# Altium integrated library TI Amplifiers and Linear Special Function Amplifier.IntLib: 708 symbols (part 16 of 47)
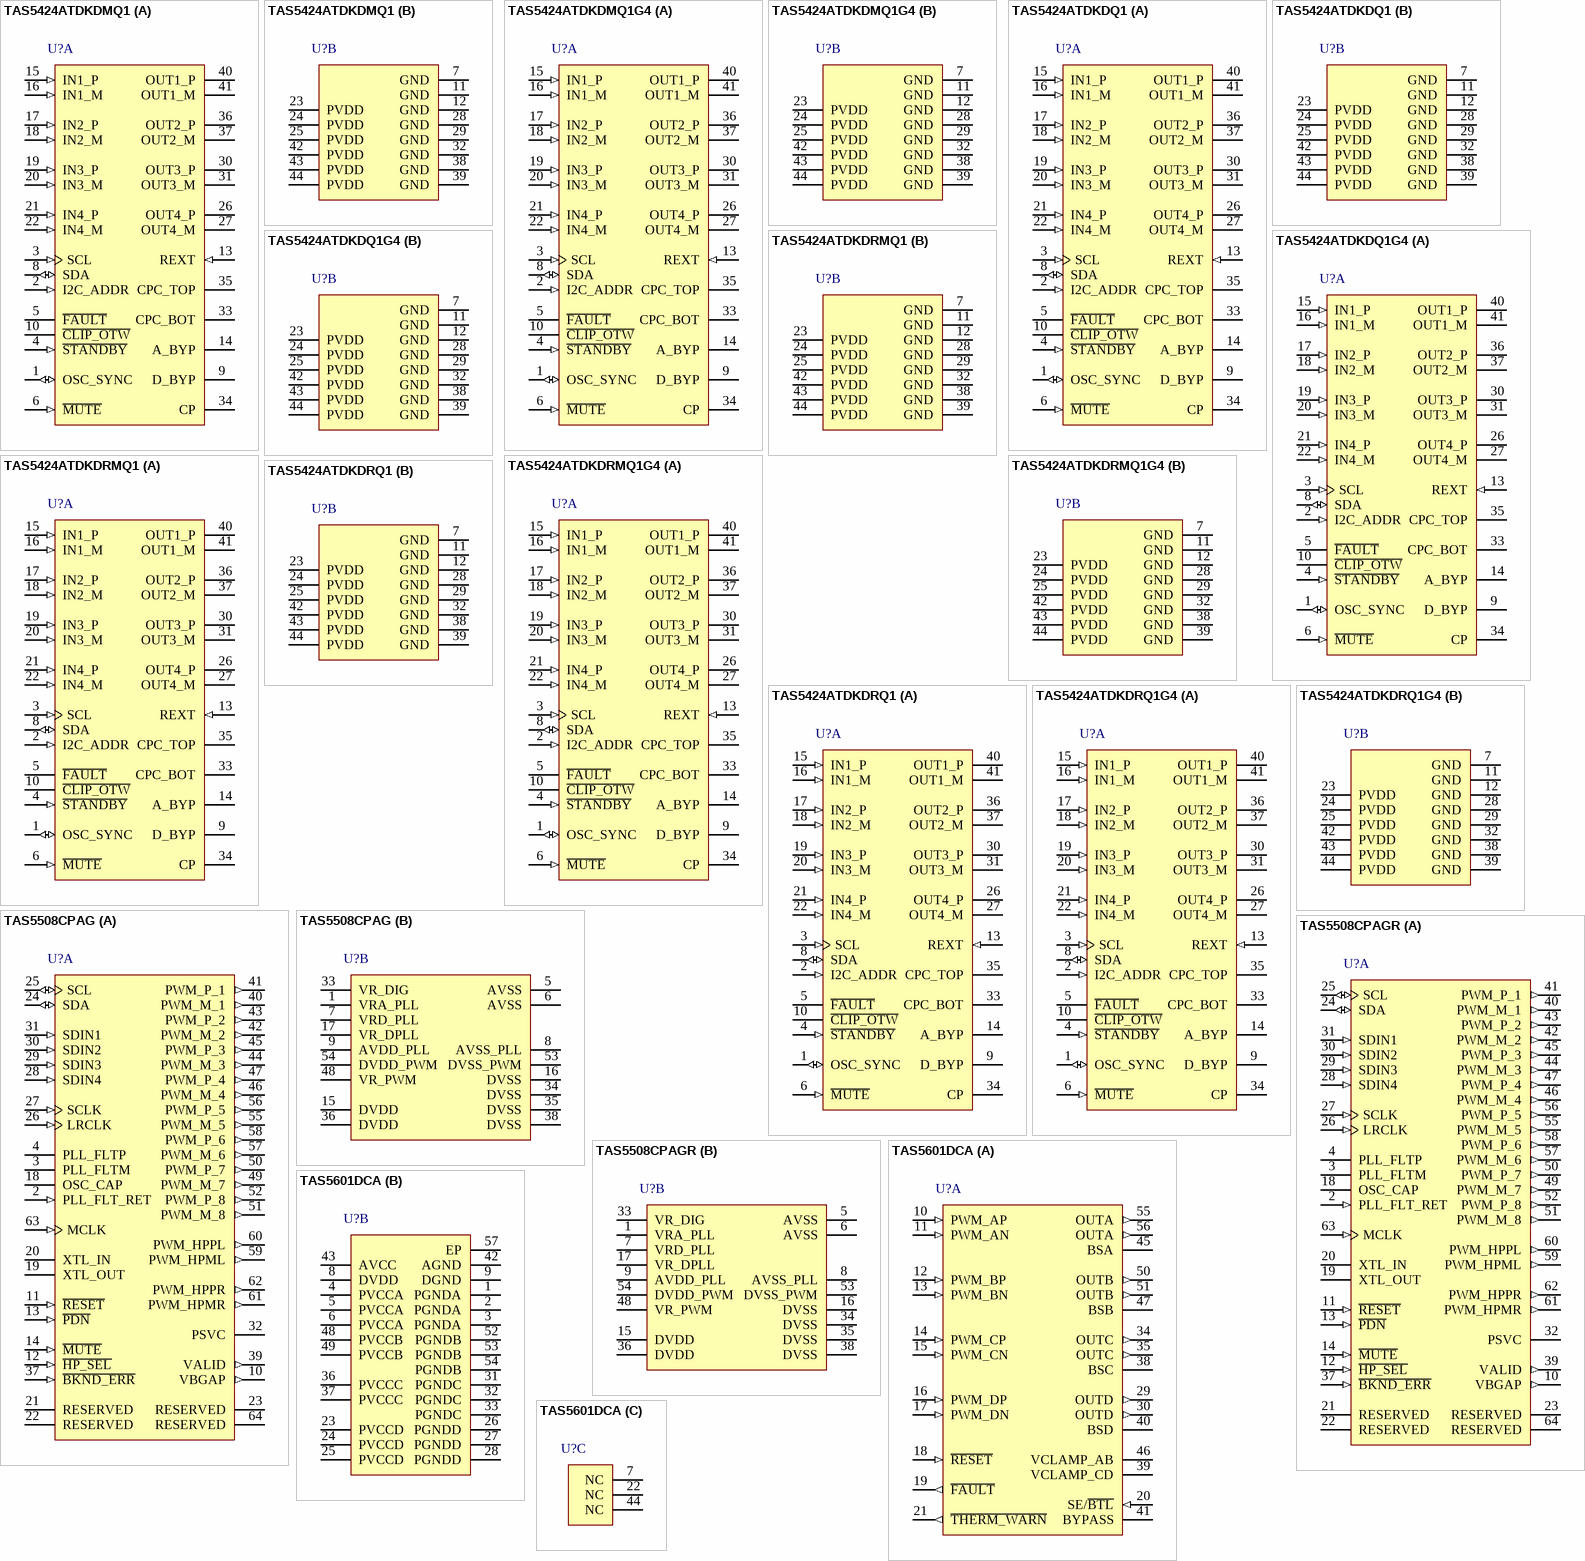
[diagram p54: symbols TAS5424ATDKDMQ1 to TAS5601DCA]

## TAS5424ATDKDMQ1
designator U?
4-Channel Automotive Digital Amplifier, -40 to 105 degC, 44-pin SOP (DKD44), Green (RoHS & no Sb/Br); Manufacturer: Texas Instruments; PartNumber: TAS5424ATDKDMQ1; Analog Supply Max [V]: 26.5; Analog Supply Min [V]: 6; Input Type: Analog; Max. Number of Speaker Outputs: 4; SubFamily: Mid/High-Power Amplifier; DatasheetVersion: SLOS535C; PackageVersion: 4204421-3/K, 06/2012; PackageReference: DKD44; PackageDescription: 44-Pin Plastic Small Outline, Body 11 x 15.9 mm, Pitch 0.65 mm; Supplier 1: Digi-Key; Supplier Part Number 1: 296-22043-5-ND; Supplier 2: Newark; Supplier Part Number 2: 54M7297; Supplier 3: Mouser; Supplier Part Number 3: 595-TAS5424ATDKDMQ1; Eco-Plan: Green (RoHS & no Sb/Br); Power Stage Supply Min(V): 6; Mounting Technology: Surface Mount; ComponentLink1Description: Manufacturer URL; ComponentLink1URL: http://www.ti.com/; ComponentLink2Description: Datasheet; ComponentLink2URL: http://www.ti.com/general/docs/lit/getliterature.tsp?genericPartNumber=TAS5424A&fileType=pdf; ComponentLink3Description: Package Specification; ComponentLink3URL: http://www.ti.com/litv/pdf/mpdi001b
footprint TI-DKD44_N (SOP, 44-Leads, Body 15.9x11mm, Pitch 0.65mm, IPC Medium Density)
footprint TI-DKD44_L (SOP, 44-Leads, Body 15.9x11mm, Pitch 0.65mm, IPC High Density)
footprint TI-DKD44_M (SOP, 44-Leads, Body 15.9x11mm, Pitch 0.65mm, IPC Low Density)
part A pins: 1 OSC_SYNC (io) "Oscillator sync input from master or output to slave amplifiers (20 MHz divided by 5, 6, or 7)", 2 I2C_ADDR (in) "I2C address bit", 3 SCL (in) "I2C clock input from system I2C master", 4 ~{STANDBY} (in) "Active-low STANDBY pin. Standby (low), power up (high)", 5 ~{FAULT} (oc) "Global fault output (open drain): UV, OV, OTSD, OCSD, DC", 6 ~{MUTE} (in) "Gain ramp control: mute (low), play (high)", 8 SDA (io) "I2C data I/O for communication with system I2C master", 9 D_BYP "Bypass pin for DVDD regulator output", 10 ~{CLIP_OTW} (oc) "Open-drain CLIP, OTW, or logical OR of the CLIP and OTW outputs. It also reports tweeter detection during tweeter mode.", 13 REXT (in) "Precision resistor pin to set analog reference", 14 A_BYP "Bypass pin for the AVDD analog regulator", 15 IN1_P (in) "Non-inverting analog input for channel 1", 16 IN1_M (in) "Inverting analog input for channel 1 (TAS5424A only)", 17 IN2_P (in) "Non-inverting analog input for channel 2", 18 IN2_M (in) "Inverting analog input for channel 2 (TAS5424A only)", 19 IN3_P (in) "Non-inverting analog input for channel 3", 20 IN3_M (in) "Inverting analog input for channel 3 (TAS5424A only)", 21 IN4_P (in) "Non-inverting analog input for channel 4", 22 IN4_M (in) "Inverting analog input for channel 4 (TAS5424A only)", 26 OUT4_P (hiz) "+ polarity output for bridge 4", 27 OUT4_M (hiz) "- polarity output for bridge 4", 30 OUT3_P (hiz) "+ polarity output for bridge 3", 31 OUT3_M (hiz) "- polarity output for bridge 3", 33 CPC_BOT "Bottom of flying capacitor for charge pump", 34 CP "Top of main storage capacitor for charge pump (bottom goes to PVDD)", 35 CPC_TOP "Top of flying capacitor for charge pump", 36 OUT2_P (hiz) "+ polarity output for bridge 2", 37 OUT2_M (hiz) "- polarity output for bridge 2", 40 OUT1_P (hiz) "+ polarity output for bridge 1", 41 OUT1_M (hiz) "- polarity output for bridge 1"
part B pins: 7 GND (power) "Ground", 11 GND (power) "Ground", 12 GND (power) "Ground", 23 PVDD (power) "PVDD supply", 24 PVDD (power) "PVDD supply", 25 PVDD (power) "PVDD supply", 28 GND (power) "Ground", 29 GND (power) "Ground", 32 GND (power) "Ground", 38 GND (power) "Ground", 39 GND (power) "Ground", 42 PVDD (power) "PVDD supply", 43 PVDD (power) "PVDD supply", 44 PVDD (power) "PVDD supply"

## TAS5424ATDKDMQ1G4
designator U?
4-Channel Automotive Digital Amplifier, -40 to 105 degC, 44-pin SOP (DKD44), Green (RoHS & no Sb/Br); Manufacturer: Texas Instruments; PartNumber: TAS5424ATDKDMQ1G4; Analog Supply Max [V]: 26.5; Analog Supply Min [V]: 6; Input Type: Analog; Max. Number of Speaker Outputs: 4; SubFamily: Mid/High-Power Amplifier; DatasheetVersion: SLOS535C; PackageVersion: 4204421-3/K, 06/2012; PackageReference: DKD44; PackageDescription: 44-Pin Plastic Small Outline, Body 11 x 15.9 mm, Pitch 0.65 mm; Supplier 1: Digi-Key; Supplier Part Number 1: TAS5424ATDKDMQ1G4-ND; Supplier 2: Mouser; Supplier Part Number 2: 595-TA5424ATDKDMQ1G4; Eco-Plan: Green (RoHS & no Sb/Br); Power Stage Supply Min(V): 6; Mounting Technology: Surface Mount; ComponentLink1Description: Manufacturer URL; ComponentLink1URL: http://www.ti.com/; ComponentLink2Description: Datasheet; ComponentLink2URL: http://www.ti.com/general/docs/lit/getliterature.tsp?genericPartNumber=TAS5424A&fileType=pdf; ComponentLink3Description: Package Specification; ComponentLink3URL: http://www.ti.com/litv/pdf/mpdi001b
footprint TI-DKD44_N (SOP, 44-Leads, Body 15.9x11mm, Pitch 0.65mm, IPC Medium Density)
footprint TI-DKD44_L (SOP, 44-Leads, Body 15.9x11mm, Pitch 0.65mm, IPC High Density)
footprint TI-DKD44_M (SOP, 44-Leads, Body 15.9x11mm, Pitch 0.65mm, IPC Low Density)
part A pins: 1 OSC_SYNC (io) "Oscillator sync input from master or output to slave amplifiers (20 MHz divided by 5, 6, or 7)", 2 I2C_ADDR (in) "I2C address bit", 3 SCL (in) "I2C clock input from system I2C master", 4 ~{STANDBY} (in) "Active-low STANDBY pin. Standby (low), power up (high)", 5 ~{FAULT} (oc) "Global fault output (open drain): UV, OV, OTSD, OCSD, DC", 6 ~{MUTE} (in) "Gain ramp control: mute (low), play (high)", 8 SDA (io) "I2C data I/O for communication with system I2C master", 9 D_BYP "Bypass pin for DVDD regulator output", 10 ~{CLIP_OTW} (oc) "Open-drain CLIP, OTW, or logical OR of the CLIP and OTW outputs. It also reports tweeter detection during tweeter mode.", 13 REXT (in) "Precision resistor pin to set analog reference", 14 A_BYP "Bypass pin for the AVDD analog regulator", 15 IN1_P (in) "Non-inverting analog input for channel 1", 16 IN1_M (in) "Inverting analog input for channel 1 (TAS5424A only)", 17 IN2_P (in) "Non-inverting analog input for channel 2", 18 IN2_M (in) "Inverting analog input for channel 2 (TAS5424A only)", 19 IN3_P (in) "Non-inverting analog input for channel 3", 20 IN3_M (in) "Inverting analog input for channel 3 (TAS5424A only)", 21 IN4_P (in) "Non-inverting analog input for channel 4", 22 IN4_M (in) "Inverting analog input for channel 4 (TAS5424A only)", 26 OUT4_P (hiz) "+ polarity output for bridge 4", 27 OUT4_M (hiz) "- polarity output for bridge 4", 30 OUT3_P (hiz) "+ polarity output for bridge 3", 31 OUT3_M (hiz) "- polarity output for bridge 3", 33 CPC_BOT "Bottom of flying capacitor for charge pump", 34 CP "Top of main storage capacitor for charge pump (bottom goes to PVDD)", 35 CPC_TOP "Top of flying capacitor for charge pump", 36 OUT2_P (hiz) "+ polarity output for bridge 2", 37 OUT2_M (hiz) "- polarity output for bridge 2", 40 OUT1_P (hiz) "+ polarity output for bridge 1", 41 OUT1_M (hiz) "- polarity output for bridge 1"
part B pins: 7 GND (power) "Ground", 11 GND (power) "Ground", 12 GND (power) "Ground", 23 PVDD (power) "PVDD supply", 24 PVDD (power) "PVDD supply", 25 PVDD (power) "PVDD supply", 28 GND (power) "Ground", 29 GND (power) "Ground", 32 GND (power) "Ground", 38 GND (power) "Ground", 39 GND (power) "Ground", 42 PVDD (power) "PVDD supply", 43 PVDD (power) "PVDD supply", 44 PVDD (power) "PVDD supply"

## TAS5424ATDKDQ1
designator U?
4-Channel Automotive Digital Amplifier, -40 to 105 degC, 44-pin SOP (DKD44), Green (RoHS & no Sb/Br); Manufacturer: Texas Instruments; PartNumber: TAS5424ATDKDQ1; Analog Supply Max [V]: 26.5; Analog Supply Min [V]: 6; Input Type: Analog; Max. Number of Speaker Outputs: 4; SubFamily: Mid/High-Power Amplifier; DatasheetVersion: SLOS535C; PackageVersion: 4204421-3/K, 06/2012; PackageReference: DKD44; PackageDescription: 44-Pin Plastic Small Outline, Body 11 x 15.9 mm, Pitch 0.65 mm; Supplier 1: Digi-Key; Supplier Part Number 1: TAS5424ATDKDQ1-ND; Supplier 2: Newark; Supplier Part Number 2: 54M7298; Supplier 3: Mouser; Supplier Part Number 3: 595-TAS5424ATDKDQ1; Eco-Plan: Green (RoHS & no Sb/Br); Power Stage Supply Min(V): 6; Mounting Technology: Surface Mount; ComponentLink1Description: Manufacturer URL; ComponentLink1URL: http://www.ti.com/; ComponentLink2Description: Datasheet; ComponentLink2URL: http://www.ti.com/general/docs/lit/getliterature.tsp?genericPartNumber=TAS5424A&fileType=pdf; ComponentLink3Description: Package Specification; ComponentLink3URL: http://www.ti.com/litv/pdf/mpdi001b
footprint TI-DKD44_N (SOP, 44-Leads, Body 15.9x11mm, Pitch 0.65mm, IPC Medium Density)
footprint TI-DKD44_L (SOP, 44-Leads, Body 15.9x11mm, Pitch 0.65mm, IPC High Density)
footprint TI-DKD44_M (SOP, 44-Leads, Body 15.9x11mm, Pitch 0.65mm, IPC Low Density)
part A pins: 1 OSC_SYNC (io) "Oscillator sync input from master or output to slave amplifiers (20 MHz divided by 5, 6, or 7)", 2 I2C_ADDR (in) "I2C address bit", 3 SCL (in) "I2C clock input from system I2C master", 4 ~{STANDBY} (in) "Active-low STANDBY pin. Standby (low), power up (high)", 5 ~{FAULT} (oc) "Global fault output (open drain): UV, OV, OTSD, OCSD, DC", 6 ~{MUTE} (in) "Gain ramp control: mute (low), play (high)", 8 SDA (io) "I2C data I/O for communication with system I2C master", 9 D_BYP "Bypass pin for DVDD regulator output", 10 ~{CLIP_OTW} (oc) "Open-drain CLIP, OTW, or logical OR of the CLIP and OTW outputs. It also reports tweeter detection during tweeter mode.", 13 REXT (in) "Precision resistor pin to set analog reference", 14 A_BYP "Bypass pin for the AVDD analog regulator", 15 IN1_P (in) "Non-inverting analog input for channel 1", 16 IN1_M (in) "Inverting analog input for channel 1 (TAS5424A only)", 17 IN2_P (in) "Non-inverting analog input for channel 2", 18 IN2_M (in) "Inverting analog input for channel 2 (TAS5424A only)", 19 IN3_P (in) "Non-inverting analog input for channel 3", 20 IN3_M (in) "Inverting analog input for channel 3 (TAS5424A only)", 21 IN4_P (in) "Non-inverting analog input for channel 4", 22 IN4_M (in) "Inverting analog input for channel 4 (TAS5424A only)", 26 OUT4_P (hiz) "+ polarity output for bridge 4", 27 OUT4_M (hiz) "- polarity output for bridge 4", 30 OUT3_P (hiz) "+ polarity output for bridge 3", 31 OUT3_M (hiz) "- polarity output for bridge 3", 33 CPC_BOT "Bottom of flying capacitor for charge pump", 34 CP "Top of main storage capacitor for charge pump (bottom goes to PVDD)", 35 CPC_TOP "Top of flying capacitor for charge pump", 36 OUT2_P (hiz) "+ polarity output for bridge 2", 37 OUT2_M (hiz) "- polarity output for bridge 2", 40 OUT1_P (hiz) "+ polarity output for bridge 1", 41 OUT1_M (hiz) "- polarity output for bridge 1"
part B pins: 7 GND (power) "Ground", 11 GND (power) "Ground", 12 GND (power) "Ground", 23 PVDD (power) "PVDD supply", 24 PVDD (power) "PVDD supply", 25 PVDD (power) "PVDD supply", 28 GND (power) "Ground", 29 GND (power) "Ground", 32 GND (power) "Ground", 38 GND (power) "Ground", 39 GND (power) "Ground", 42 PVDD (power) "PVDD supply", 43 PVDD (power) "PVDD supply", 44 PVDD (power) "PVDD supply"

## TAS5424ATDKDQ1G4
designator U?
4-Channel Automotive Digital Amplifier, -40 to 105 degC, 44-pin SOP (DKD44), Green (RoHS & no Sb/Br); Manufacturer: Texas Instruments; PartNumber: TAS5424ATDKDQ1G4; Analog Supply Max [V]: 26.5; Analog Supply Min [V]: 6; Input Type: Analog; Max. Number of Speaker Outputs: 4; SubFamily: Mid/High-Power Amplifier; DatasheetVersion: SLOS535C; PackageVersion: 4204421-3/K, 06/2012; PackageReference: DKD44; PackageDescription: 44-Pin Plastic Small Outline, Body 11 x 15.9 mm, Pitch 0.65 mm; Supplier 1: Digi-Key; Supplier Part Number 1: TAS5424ATDKDQ1G4-ND; Supplier 2: Mouser; Supplier Part Number 2: 595-TAS5424ATDKDQ1G4; Eco-Plan: Green (RoHS & no Sb/Br); Power Stage Supply Min(V): 6; Mounting Technology: Surface Mount; ComponentLink1Description: Manufacturer URL; ComponentLink1URL: http://www.ti.com/; ComponentLink2Description: Datasheet; ComponentLink2URL: http://www.ti.com/general/docs/lit/getliterature.tsp?genericPartNumber=TAS5424A&fileType=pdf; ComponentLink3Description: Package Specification; ComponentLink3URL: http://www.ti.com/litv/pdf/mpdi001b
footprint TI-DKD44_N (SOP, 44-Leads, Body 15.9x11mm, Pitch 0.65mm, IPC Medium Density)
footprint TI-DKD44_L (SOP, 44-Leads, Body 15.9x11mm, Pitch 0.65mm, IPC High Density)
footprint TI-DKD44_M (SOP, 44-Leads, Body 15.9x11mm, Pitch 0.65mm, IPC Low Density)
part A pins: 1 OSC_SYNC (io) "Oscillator sync input from master or output to slave amplifiers (20 MHz divided by 5, 6, or 7)", 2 I2C_ADDR (in) "I2C address bit", 3 SCL (in) "I2C clock input from system I2C master", 4 ~{STANDBY} (in) "Active-low STANDBY pin. Standby (low), power up (high)", 5 ~{FAULT} (oc) "Global fault output (open drain): UV, OV, OTSD, OCSD, DC", 6 ~{MUTE} (in) "Gain ramp control: mute (low), play (high)", 8 SDA (io) "I2C data I/O for communication with system I2C master", 9 D_BYP "Bypass pin for DVDD regulator output", 10 ~{CLIP_OTW} (oc) "Open-drain CLIP, OTW, or logical OR of the CLIP and OTW outputs. It also reports tweeter detection during tweeter mode.", 13 REXT (in) "Precision resistor pin to set analog reference", 14 A_BYP "Bypass pin for the AVDD analog regulator", 15 IN1_P (in) "Non-inverting analog input for channel 1", 16 IN1_M (in) "Inverting analog input for channel 1 (TAS5424A only)", 17 IN2_P (in) "Non-inverting analog input for channel 2", 18 IN2_M (in) "Inverting analog input for channel 2 (TAS5424A only)", 19 IN3_P (in) "Non-inverting analog input for channel 3", 20 IN3_M (in) "Inverting analog input for channel 3 (TAS5424A only)", 21 IN4_P (in) "Non-inverting analog input for channel 4", 22 IN4_M (in) "Inverting analog input for channel 4 (TAS5424A only)", 26 OUT4_P (hiz) "+ polarity output for bridge 4", 27 OUT4_M (hiz) "- polarity output for bridge 4", 30 OUT3_P (hiz) "+ polarity output for bridge 3", 31 OUT3_M (hiz) "- polarity output for bridge 3", 33 CPC_BOT "Bottom of flying capacitor for charge pump", 34 CP "Top of main storage capacitor for charge pump (bottom goes to PVDD)", 35 CPC_TOP "Top of flying capacitor for charge pump", 36 OUT2_P (hiz) "+ polarity output for bridge 2", 37 OUT2_M (hiz) "- polarity output for bridge 2", 40 OUT1_P (hiz) "+ polarity output for bridge 1", 41 OUT1_M (hiz) "- polarity output for bridge 1"
part B pins: 7 GND (power) "Ground", 11 GND (power) "Ground", 12 GND (power) "Ground", 23 PVDD (power) "PVDD supply", 24 PVDD (power) "PVDD supply", 25 PVDD (power) "PVDD supply", 28 GND (power) "Ground", 29 GND (power) "Ground", 32 GND (power) "Ground", 38 GND (power) "Ground", 39 GND (power) "Ground", 42 PVDD (power) "PVDD supply", 43 PVDD (power) "PVDD supply", 44 PVDD (power) "PVDD supply"

## TAS5424ATDKDRMQ1
designator U?
4-Channel Automotive Digital Amplifier, -40 to 105 degC, 44-pin SOP (DKD44), Green (RoHS & no Sb/Br); Manufacturer: Texas Instruments; PartNumber: TAS5424ATDKDRMQ1; Analog Supply Max [V]: 26.5; Analog Supply Min [V]: 6; Input Type: Analog; Max. Number of Speaker Outputs: 4; SubFamily: Mid/High-Power Amplifier; DatasheetVersion: SLOS535C; PackageVersion: 4204421-3/K, 06/2012; PackageReference: DKD44; PackageDescription: 44-Pin Plastic Small Outline, Body 11 x 15.9 mm, Pitch 0.65 mm; Supplier 1: Digi-Key; Supplier Part Number 1: TAS5424ATDKDRMQ1-ND; Supplier 2: Mouser; Supplier Part Number 2: 595-TAS5424ATDKDRMQ1; Eco-Plan: Green (RoHS & no Sb/Br); Power Stage Supply Min(V): 6; Mounting Technology: Surface Mount; ComponentLink1Description: Manufacturer URL; ComponentLink1URL: http://www.ti.com/; ComponentLink2Description: Datasheet; ComponentLink2URL: http://www.ti.com/general/docs/lit/getliterature.tsp?genericPartNumber=TAS5424A&fileType=pdf; ComponentLink3Description: Package Specification; ComponentLink3URL: http://www.ti.com/litv/pdf/mpdi001b
footprint TI-DKD44_N (SOP, 44-Leads, Body 15.9x11mm, Pitch 0.65mm, IPC Medium Density)
footprint TI-DKD44_L (SOP, 44-Leads, Body 15.9x11mm, Pitch 0.65mm, IPC High Density)
footprint TI-DKD44_M (SOP, 44-Leads, Body 15.9x11mm, Pitch 0.65mm, IPC Low Density)
part A pins: 1 OSC_SYNC (io) "Oscillator sync input from master or output to slave amplifiers (20 MHz divided by 5, 6, or 7)", 2 I2C_ADDR (in) "I2C address bit", 3 SCL (in) "I2C clock input from system I2C master", 4 ~{STANDBY} (in) "Active-low STANDBY pin. Standby (low), power up (high)", 5 ~{FAULT} (oc) "Global fault output (open drain): UV, OV, OTSD, OCSD, DC", 6 ~{MUTE} (in) "Gain ramp control: mute (low), play (high)", 8 SDA (io) "I2C data I/O for communication with system I2C master", 9 D_BYP "Bypass pin for DVDD regulator output", 10 ~{CLIP_OTW} (oc) "Open-drain CLIP, OTW, or logical OR of the CLIP and OTW outputs. It also reports tweeter detection during tweeter mode.", 13 REXT (in) "Precision resistor pin to set analog reference", 14 A_BYP "Bypass pin for the AVDD analog regulator", 15 IN1_P (in) "Non-inverting analog input for channel 1", 16 IN1_M (in) "Inverting analog input for channel 1 (TAS5424A only)", 17 IN2_P (in) "Non-inverting analog input for channel 2", 18 IN2_M (in) "Inverting analog input for channel 2 (TAS5424A only)", 19 IN3_P (in) "Non-inverting analog input for channel 3", 20 IN3_M (in) "Inverting analog input for channel 3 (TAS5424A only)", 21 IN4_P (in) "Non-inverting analog input for channel 4", 22 IN4_M (in) "Inverting analog input for channel 4 (TAS5424A only)", 26 OUT4_P (hiz) "+ polarity output for bridge 4", 27 OUT4_M (hiz) "- polarity output for bridge 4", 30 OUT3_P (hiz) "+ polarity output for bridge 3", 31 OUT3_M (hiz) "- polarity output for bridge 3", 33 CPC_BOT "Bottom of flying capacitor for charge pump", 34 CP "Top of main storage capacitor for charge pump (bottom goes to PVDD)", 35 CPC_TOP "Top of flying capacitor for charge pump", 36 OUT2_P (hiz) "+ polarity output for bridge 2", 37 OUT2_M (hiz) "- polarity output for bridge 2", 40 OUT1_P (hiz) "+ polarity output for bridge 1", 41 OUT1_M (hiz) "- polarity output for bridge 1"
part B pins: 7 GND (power) "Ground", 11 GND (power) "Ground", 12 GND (power) "Ground", 23 PVDD (power) "PVDD supply", 24 PVDD (power) "PVDD supply", 25 PVDD (power) "PVDD supply", 28 GND (power) "Ground", 29 GND (power) "Ground", 32 GND (power) "Ground", 38 GND (power) "Ground", 39 GND (power) "Ground", 42 PVDD (power) "PVDD supply", 43 PVDD (power) "PVDD supply", 44 PVDD (power) "PVDD supply"

## TAS5424ATDKDRMQ1G4
designator U?
4-Channel Automotive Digital Amplifier, -40 to 105 degC, 44-pin SOP (DKD44), Green (RoHS & no Sb/Br); Manufacturer: Texas Instruments; PartNumber: TAS5424ATDKDRMQ1G4; Analog Supply Max [V]: 26.5; Analog Supply Min [V]: 6; Input Type: Analog; Max. Number of Speaker Outputs: 4; SubFamily: Mid/High-Power Amplifier; DatasheetVersion: SLOS535C; PackageVersion: 4204421-3/K, 06/2012; PackageReference: DKD44; PackageDescription: 44-Pin Plastic Small Outline, Body 11 x 15.9 mm, Pitch 0.65 mm; Supplier 1: Digi-Key; Supplier Part Number 1: TAS5424ATDKDRMQ1G4-ND; Supplier 2: Mouser; Supplier Part Number 2: 595-T5424ATDKDRMQ1G4; Eco-Plan: Green (RoHS & no Sb/Br); Power Stage Supply Min(V): 6; Mounting Technology: Surface Mount; ComponentLink1Description: Manufacturer URL; ComponentLink1URL: http://www.ti.com/; ComponentLink2Description: Datasheet; ComponentLink2URL: http://www.ti.com/general/docs/lit/getliterature.tsp?genericPartNumber=TAS5424A&fileType=pdf; ComponentLink3Description: Package Specification; ComponentLink3URL: http://www.ti.com/litv/pdf/mpdi001b
footprint TI-DKD44_N (SOP, 44-Leads, Body 15.9x11mm, Pitch 0.65mm, IPC Medium Density)
footprint TI-DKD44_L (SOP, 44-Leads, Body 15.9x11mm, Pitch 0.65mm, IPC High Density)
footprint TI-DKD44_M (SOP, 44-Leads, Body 15.9x11mm, Pitch 0.65mm, IPC Low Density)
part A pins: 1 OSC_SYNC (io) "Oscillator sync input from master or output to slave amplifiers (20 MHz divided by 5, 6, or 7)", 2 I2C_ADDR (in) "I2C address bit", 3 SCL (in) "I2C clock input from system I2C master", 4 ~{STANDBY} (in) "Active-low STANDBY pin. Standby (low), power up (high)", 5 ~{FAULT} (oc) "Global fault output (open drain): UV, OV, OTSD, OCSD, DC", 6 ~{MUTE} (in) "Gain ramp control: mute (low), play (high)", 8 SDA (io) "I2C data I/O for communication with system I2C master", 9 D_BYP "Bypass pin for DVDD regulator output", 10 ~{CLIP_OTW} (oc) "Open-drain CLIP, OTW, or logical OR of the CLIP and OTW outputs. It also reports tweeter detection during tweeter mode.", 13 REXT (in) "Precision resistor pin to set analog reference", 14 A_BYP "Bypass pin for the AVDD analog regulator", 15 IN1_P (in) "Non-inverting analog input for channel 1", 16 IN1_M (in) "Inverting analog input for channel 1 (TAS5424A only)", 17 IN2_P (in) "Non-inverting analog input for channel 2", 18 IN2_M (in) "Inverting analog input for channel 2 (TAS5424A only)", 19 IN3_P (in) "Non-inverting analog input for channel 3", 20 IN3_M (in) "Inverting analog input for channel 3 (TAS5424A only)", 21 IN4_P (in) "Non-inverting analog input for channel 4", 22 IN4_M (in) "Inverting analog input for channel 4 (TAS5424A only)", 26 OUT4_P (hiz) "+ polarity output for bridge 4", 27 OUT4_M (hiz) "- polarity output for bridge 4", 30 OUT3_P (hiz) "+ polarity output for bridge 3", 31 OUT3_M (hiz) "- polarity output for bridge 3", 33 CPC_BOT "Bottom of flying capacitor for charge pump", 34 CP "Top of main storage capacitor for charge pump (bottom goes to PVDD)", 35 CPC_TOP "Top of flying capacitor for charge pump", 36 OUT2_P (hiz) "+ polarity output for bridge 2", 37 OUT2_M (hiz) "- polarity output for bridge 2", 40 OUT1_P (hiz) "+ polarity output for bridge 1", 41 OUT1_M (hiz) "- polarity output for bridge 1"
part B pins: 7 GND (power) "Ground", 11 GND (power) "Ground", 12 GND (power) "Ground", 23 PVDD (power) "PVDD supply", 24 PVDD (power) "PVDD supply", 25 PVDD (power) "PVDD supply", 28 GND (power) "Ground", 29 GND (power) "Ground", 32 GND (power) "Ground", 38 GND (power) "Ground", 39 GND (power) "Ground", 42 PVDD (power) "PVDD supply", 43 PVDD (power) "PVDD supply", 44 PVDD (power) "PVDD supply"

## TAS5424ATDKDRQ1
designator U?
4-Channel Automotive Digital Amplifier, -40 to 105 degC, 44-pin SOP (DKD44), Green (RoHS & no Sb/Br); Manufacturer: Texas Instruments; PartNumber: TAS5424ATDKDRQ1; Analog Supply Max [V]: 26.5; Analog Supply Min [V]: 6; Input Type: Analog; Max. Number of Speaker Outputs: 4; SubFamily: Mid/High-Power Amplifier; DatasheetVersion: SLOS535C; PackageVersion: 4204421-3/K, 06/2012; PackageReference: DKD44; PackageDescription: 44-Pin Plastic Small Outline, Body 11 x 15.9 mm, Pitch 0.65 mm; Supplier 1: Digi-Key; Supplier Part Number 1: 296-22067-2-ND; Supplier 2: Digi-Key; Supplier Part Number 2: 296-22067-1-ND; Supplier 3: Mouser; Supplier Part Number 3: 595-TAS5424ATDKDRQ1; Eco-Plan: Green (RoHS & no Sb/Br); Power Stage Supply Min(V): 6; Mounting Technology: Surface Mount; ComponentLink1Description: Manufacturer URL; ComponentLink1URL: http://www.ti.com/; ComponentLink2Description: Datasheet; ComponentLink2URL: http://www.ti.com/general/docs/lit/getliterature.tsp?genericPartNumber=TAS5424A&fileType=pdf; ComponentLink3Description: Package Specification; ComponentLink3URL: http://www.ti.com/litv/pdf/mpdi001b
footprint TI-DKD44_N (SOP, 44-Leads, Body 15.9x11mm, Pitch 0.65mm, IPC Medium Density)
footprint TI-DKD44_L (SOP, 44-Leads, Body 15.9x11mm, Pitch 0.65mm, IPC High Density)
footprint TI-DKD44_M (SOP, 44-Leads, Body 15.9x11mm, Pitch 0.65mm, IPC Low Density)
part A pins: 1 OSC_SYNC (io) "Oscillator sync input from master or output to slave amplifiers (20 MHz divided by 5, 6, or 7)", 2 I2C_ADDR (in) "I2C address bit", 3 SCL (in) "I2C clock input from system I2C master", 4 ~{STANDBY} (in) "Active-low STANDBY pin. Standby (low), power up (high)", 5 ~{FAULT} (oc) "Global fault output (open drain): UV, OV, OTSD, OCSD, DC", 6 ~{MUTE} (in) "Gain ramp control: mute (low), play (high)", 8 SDA (io) "I2C data I/O for communication with system I2C master", 9 D_BYP "Bypass pin for DVDD regulator output", 10 ~{CLIP_OTW} (oc) "Open-drain CLIP, OTW, or logical OR of the CLIP and OTW outputs. It also reports tweeter detection during tweeter mode.", 13 REXT (in) "Precision resistor pin to set analog reference", 14 A_BYP "Bypass pin for the AVDD analog regulator", 15 IN1_P (in) "Non-inverting analog input for channel 1", 16 IN1_M (in) "Inverting analog input for channel 1 (TAS5424A only)", 17 IN2_P (in) "Non-inverting analog input for channel 2", 18 IN2_M (in) "Inverting analog input for channel 2 (TAS5424A only)", 19 IN3_P (in) "Non-inverting analog input for channel 3", 20 IN3_M (in) "Inverting analog input for channel 3 (TAS5424A only)", 21 IN4_P (in) "Non-inverting analog input for channel 4", 22 IN4_M (in) "Inverting analog input for channel 4 (TAS5424A only)", 26 OUT4_P (hiz) "+ polarity output for bridge 4", 27 OUT4_M (hiz) "- polarity output for bridge 4", 30 OUT3_P (hiz) "+ polarity output for bridge 3", 31 OUT3_M (hiz) "- polarity output for bridge 3", 33 CPC_BOT "Bottom of flying capacitor for charge pump", 34 CP "Top of main storage capacitor for charge pump (bottom goes to PVDD)", 35 CPC_TOP "Top of flying capacitor for charge pump", 36 OUT2_P (hiz) "+ polarity output for bridge 2", 37 OUT2_M (hiz) "- polarity output for bridge 2", 40 OUT1_P (hiz) "+ polarity output for bridge 1", 41 OUT1_M (hiz) "- polarity output for bridge 1"
part B pins: 7 GND (power) "Ground", 11 GND (power) "Ground", 12 GND (power) "Ground", 23 PVDD (power) "PVDD supply", 24 PVDD (power) "PVDD supply", 25 PVDD (power) "PVDD supply", 28 GND (power) "Ground", 29 GND (power) "Ground", 32 GND (power) "Ground", 38 GND (power) "Ground", 39 GND (power) "Ground", 42 PVDD (power) "PVDD supply", 43 PVDD (power) "PVDD supply", 44 PVDD (power) "PVDD supply"

## TAS5424ATDKDRQ1G4
designator U?
4-Channel Automotive Digital Amplifier, -40 to 105 degC, 44-pin SOP (DKD44), Green (RoHS & no Sb/Br); Manufacturer: Texas Instruments; PartNumber: TAS5424ATDKDRQ1G4; Analog Supply Max [V]: 26.5; Analog Supply Min [V]: 6; Input Type: Analog; Max. Number of Speaker Outputs: 4; SubFamily: Mid/High-Power Amplifier; DatasheetVersion: SLOS535C; PackageVersion: 4204421-3/K, 06/2012; PackageReference: DKD44; PackageDescription: 44-Pin Plastic Small Outline, Body 11 x 15.9 mm, Pitch 0.65 mm; Supplier 1: Digi-Key; Supplier Part Number 1: TAS5424ATDKDRQ1G4-ND; Supplier 2: Mouser; Supplier Part Number 2: 595-TA5424ATDKDRQ1G4; Eco-Plan: Green (RoHS & no Sb/Br); Power Stage Supply Min(V): 6; Mounting Technology: Surface Mount; ComponentLink1Description: Manufacturer URL; ComponentLink1URL: http://www.ti.com/; ComponentLink2Description: Datasheet; ComponentLink2URL: http://www.ti.com/general/docs/lit/getliterature.tsp?genericPartNumber=TAS5424A&fileType=pdf; ComponentLink3Description: Package Specification; ComponentLink3URL: http://www.ti.com/litv/pdf/mpdi001b
footprint TI-DKD44_N (SOP, 44-Leads, Body 15.9x11mm, Pitch 0.65mm, IPC Medium Density)
footprint TI-DKD44_L (SOP, 44-Leads, Body 15.9x11mm, Pitch 0.65mm, IPC High Density)
footprint TI-DKD44_M (SOP, 44-Leads, Body 15.9x11mm, Pitch 0.65mm, IPC Low Density)
part A pins: 1 OSC_SYNC (io) "Oscillator sync input from master or output to slave amplifiers (20 MHz divided by 5, 6, or 7)", 2 I2C_ADDR (in) "I2C address bit", 3 SCL (in) "I2C clock input from system I2C master", 4 ~{STANDBY} (in) "Active-low STANDBY pin. Standby (low), power up (high)", 5 ~{FAULT} (oc) "Global fault output (open drain): UV, OV, OTSD, OCSD, DC", 6 ~{MUTE} (in) "Gain ramp control: mute (low), play (high)", 8 SDA (io) "I2C data I/O for communication with system I2C master", 9 D_BYP "Bypass pin for DVDD regulator output", 10 ~{CLIP_OTW} (oc) "Open-drain CLIP, OTW, or logical OR of the CLIP and OTW outputs. It also reports tweeter detection during tweeter mode.", 13 REXT (in) "Precision resistor pin to set analog reference", 14 A_BYP "Bypass pin for the AVDD analog regulator", 15 IN1_P (in) "Non-inverting analog input for channel 1", 16 IN1_M (in) "Inverting analog input for channel 1 (TAS5424A only)", 17 IN2_P (in) "Non-inverting analog input for channel 2", 18 IN2_M (in) "Inverting analog input for channel 2 (TAS5424A only)", 19 IN3_P (in) "Non-inverting analog input for channel 3", 20 IN3_M (in) "Inverting analog input for channel 3 (TAS5424A only)", 21 IN4_P (in) "Non-inverting analog input for channel 4", 22 IN4_M (in) "Inverting analog input for channel 4 (TAS5424A only)", 26 OUT4_P (hiz) "+ polarity output for bridge 4", 27 OUT4_M (hiz) "- polarity output for bridge 4", 30 OUT3_P (hiz) "+ polarity output for bridge 3", 31 OUT3_M (hiz) "- polarity output for bridge 3", 33 CPC_BOT "Bottom of flying capacitor for charge pump", 34 CP "Top of main storage capacitor for charge pump (bottom goes to PVDD)", 35 CPC_TOP "Top of flying capacitor for charge pump", 36 OUT2_P (hiz) "+ polarity output for bridge 2", 37 OUT2_M (hiz) "- polarity output for bridge 2", 40 OUT1_P (hiz) "+ polarity output for bridge 1", 41 OUT1_M (hiz) "- polarity output for bridge 1"
part B pins: 7 GND (power) "Ground", 11 GND (power) "Ground", 12 GND (power) "Ground", 23 PVDD (power) "PVDD supply", 24 PVDD (power) "PVDD supply", 25 PVDD (power) "PVDD supply", 28 GND (power) "Ground", 29 GND (power) "Ground", 32 GND (power) "Ground", 38 GND (power) "Ground", 39 GND (power) "Ground", 42 PVDD (power) "PVDD supply", 43 PVDD (power) "PVDD supply", 44 PVDD (power) "PVDD supply"

## TAS5508CPAG
designator U?
8 Channel PWM Processor, 0 to 70 degC, 64-pin QFP (PAG64), Green (RoHS & no Sb/Br); Manufacturer: Texas Instruments; PartNumber: TAS5508CPAG; Audio Output Channels (PWM)(#): 8; Bass/Treble Tone Control: TRUE; Data Resolution: 16, 20, 24; Digital Supply (up to 5 V)(Max)(V): 3.6; Digital Supply (up to 5 V)(Min)(V): 3; Dynamic Range(dB): 102; Fs(Max)(kHz): 192; Fs(Min)(kHz): 32; Loudness Compensation: Yes; Serial Interface: I2S, R, L; DatasheetVersion: SLES257; PackageVersion: 4040282/C, 11/1996; PackageReference: PAG64; PackageDescription: 64-Pin Plastic Flat Pack, Body 10 x 10 mm, Pitch 0.50 mm; Supplier 1: Digi-Key; Supplier Part Number 1: 296-32725-ND; Supplier 2: Mouser; Supplier Part Number 2: 595-TAS5508CPAG; Class-D: TRUE; Digital Input: TRUE; Eco-Plan: Green (RoHS & no Sb/Br); Mute: Yes; Output: PWM; PWM Headphone Output: TRUE; SubFamily: PWM Processor; Volume Control: TRUE; Mounting Technology: Surface Mount; Code_JEDEC: MS-026; ComponentLink1Description: Manufacturer URL; ComponentLink1URL: http://www.ti.com/; ComponentLink2Description: Datasheet; ComponentLink2URL: http://www.ti.com/general/docs/lit/getliterature.tsp?genericPartNumber=TAS5508C&fileType=pdf; ComponentLink3Description: Package Specification; ComponentLink3URL: http://www.ti.com/lit/ml/mtqf006a/mtqf006a.pdf
footprint TI-PAG64_N (QFP, 64-Leads, Body 10x10mm, Pitch 0.5mm, IPC Medium Density)
footprint TI-PAG64_L (QFP, 64-Leads, Body 10x10mm, Pitch 0.5mm, IPC High Density)
footprint TI-PAG64_M (QFP, 64-Leads, Body 10x10mm, Pitch 0.5mm, IPC Low Density)
part A pins: 2 PLL_FLT_RET (in) "PLL external filter return", 3 PLL_FLTM "PLL negative input. Connected to PLL_FLT_RTN via an RC network", 4 PLL_FLTP "PLL positive input. Connected to PLL_FLT_RTN via an RC network", 10 VBGAP (out) "Band-gap voltage reference. A pinout of the internally regulated 1.2-V reference.Typically has a 1-nF low-ESR capacitor between VBGAP and AVSS_PLL. This terminal must not be used to power external devices.", 11 ~{RESET} (in) "System reset input, active-low. A system reset is generated by applying a logic low to this terminal. R\E\S\E\T\ is an asynchronous control signal that restores the TAS5508C to its default conditions, sets the valid output (See Datasheet)", 12 ~{HP_SEL} (in) "Headphone in/out selector. When a logic low is applied, the headphone is selected (speakers are off). When a logic high is applied, speakers are selected(headphone is off).", 13 ~{PDN} (in) "Power down, active-low. P\D\N\ powers down all logic and stops all clocks whenever a logic low is applied. The internal parameters are preserved through a power-down cycle, as long as R\E\S\E\T\ is not active. The duration (See Datasheet)", 14 ~{MUTE} (in) "Soft mute of outputs, active-low (muted signal = a logic low, normal operation =a logic high). The mute control provides a noiseless volume ramp to silence.Releasing mute provides a noiseless ramp to previous volume.", 18 OSC_CAP "Oscillator capacitor", 19 XTL_OUT "XTL_OUT and XTL_IN are the only LVCMOS terminals on the device. They provide a reference clock for the TAS5508C via use of an external fundamental-mode crystal. XTL_OUT is the 1.8-V output drive to the crystal. A 13.5-MHz (See Datasheet)", 20 XTL_IN "XTL_OUT and XTL_IN are the only LVCMOS terminals on the device. They provide a reference clock for the TAS5508C via use of an external fundamental-mode crystal. XTL_IN  is the 1.8-V output drive to the crystal. A 13.5-MHz (See Datasheet)", 21 RESERVED (power) "Connect to digital ground", 22 RESERVED (power) "Connect to digital ground", 23 RESERVED (power) "Connect to digital ground", 24 SDA (io) "I2C serial-control data-interface input/output", 25 SCL (io) "I2C serial-control clock input/output", 26 LRCLK (in) "Serial-audio data left/right clock (sampling-rate clock)", 27 SCLK (in) "Serial-audio data clock (shift clock) input", 28 SDIN4 (in) "Serial-audio data input 4 is one of the serial-data input ports. SDIN4 supports four discrete (stereo) data formats and is capable of inputting data at 64 Fs.", 29 SDIN3 (in) "Serial-audio data input 3 is one of the serial-data input ports. SDIN4 supports four discrete (stereo) data formats and is capable of inputting data at 64 Fs.", 30 SDIN2 (in) "Serial-audio data input 2 is one of the serial-data input ports. SDIN2 supports four discrete (stereo) data formats and is capable of inputting data at 64 Fs.", 31 SDIN1 (in) "Serial-audio data input 1 is one of the serial-data input ports. SDIN2 supports four discrete (stereo) data formats and is capable of inputting data at 64 Fs.", 32 PSVC (hiz) "Power-supply volume control PWM output", 37 ~{BKND_ERR} (in) "Active-low. A back-end error sequence is generated by applying logic low to this terminal. The B\K\N\D\_\E\R\R\ results in no change to any system parameters, with all H-bridge drive signals going to a hard-mute (M) state.", 39 VALID (out) "Output indicating validity of PWM outputs, active-high", 40 PWM_M_1 (out) "PWM 1 output (differential -)", 41 PWM_P_1 (out) "PWM 1 output (differential +)", 42 PWM_M_2 (out) "PWM 2 output (differential -)", 43 PWM_P_2 (out) "PWM 2 output (differential +)", 44 PWM_M_3 (out) "PWM 3 output (differential -)", 45 PWM_P_3 (out) "PWM 3 output (differential +)", 46 PWM_M_4 (out) "PWM 4 output (differential -)", 47 PWM_P_4 (out) "PWM 4 output (differential +)", 49 PWM_M_7 (out) "PWM 7 (lineout L) output (differential -)", 50 PWM_P_7 (out) "PWM 7 (lineout L) output (differential +)", 51 PWM_M_8 (out) "PWM 8 (lineout R) output (differential -)", 52 PWM_P_8 (out) "PWM 8 (lineout R) output (differential +)", 55 PWM_M_5 (out) "PWM 5 output (differential -)", 56 PWM_P_5 (out) "PWM 5 output (differential +)", 57 PWM_M_6 (out) "PWM 6 output (differential -)", 58 PWM_P_6 (out) "PWM 6 output (differential +)", 59 PWM_HPML (out) "PWM left-channel headphone (differential -)", 60 PWM_HPPL (out) "PWM left-channel headphone (differential +)", 61 PWM_HPMR (out) "PWM right-channel headphone (differential -)", 62 PWM_HPPR (out) "PWM right-channel headphone (differential +)", 63 MCLK (in) "MCLK is a 3.3-V master clock input. The input frequency of this clock can range from 4 MHz to 50 MHz.", 64 RESERVED (power) "Connect to digital ground"
part B pins: 1 VRA_PLL (power) "Voltage reference for 1.8-V PLL analog supply. A pinout of the internally regulated 1.8-V power used by PLL logic. A 0.1-uF low-ESR capacitor should be connected between this terminal and AVSS_PLL. This terminal must not be (See Datasheet)", 5 AVSS (power) "Analog ground", 6 AVSS (power) "Analog ground", 7 VRD_PLL (power) "Voltage reference for 1.8-V PLL digital supply. A pinout of the internally regulated 1.8-V power used by PLL logic. A 0.1-uF low-ESR capacitor should be connected between this terminal and AVSS_PLL. This terminal must not be (See Datasheet)", 8 AVSS_PLL (power) "Analog ground for PLL. This terminal should reference the same ground as terminal DVSS, but to achieve low PLL jitter, ground noise at this terminal must be minimized. The availability of the AVSS terminal allows a designer (See Datasheet)", 9 AVDD_PLL (power) "3.3-V analog power supply for PLL. This terminal can be connected to the same power source used to drive power terminal DVDD, but to achieve low PLL jitter, this terminal should be bypassed to AVSS_PLL with a 0.1-uF low-ESR (See Datasheet)", 15 DVDD (power) "3.3-V digital power supply", 16 DVSS (power) "Digital ground", 17 VR_DPLL (power) "Voltage reference for 1.8-V digital PLL supply. A pinout of the internally regulated 1.8-V power used by digital PLL logic. A 0.1-uF low-ESR capacitor should be connected between this terminal and DVSS_CORE. This terminal (See Datasheet)", 33 VR_DIG (power) "Voltage reference for 1.8-V digital core supply. A pinout of the internally regulated 1.8-V power used by digital core logic. A 4.7-uF low-ESR capacitor should be connected between this terminal and DVSS. This terminal must (See Datasheet)", 34 DVSS (power) "Digital ground", 35 DVSS (power) "Digital ground", 36 DVDD (power) "3.3-V digital power supply", 38 DVSS (power) "Digital ground", 48 VR_PWM (power) "Voltage reference for 1.8-V digital PWM core supply. A pinout of the internally regulated 1.8-V power used by digital PWM core logic. A 0.1-uF low-ESR capacitor should be connected between this terminal and DVSS_PWM. This (See Datasheet)", 53 DVSS_PWM (power) "Digital ground for PWM", 54 DVDD_PWM (power) "3.3-V digital power supply for PWM"

## TAS5508CPAGR
designator U?
8 Channel PWM Processor, 0 to 70 degC, 64-pin QFP (PAG64), Green (RoHS & no Sb/Br); Manufacturer: Texas Instruments; PartNumber: TAS5508CPAGR; Audio Output Channels (PWM)(#): 8; Bass/Treble Tone Control: TRUE; Data Resolution: 16, 20, 24; Digital Supply (up to 5 V)(Max)(V): 3.6; Digital Supply (up to 5 V)(Min)(V): 3; Dynamic Range(dB): 102; Fs(Max)(kHz): 192; Fs(Min)(kHz): 32; Loudness Compensation: Yes; Serial Interface: I2S, R, L; DatasheetVersion: SLES257; PackageVersion: 4040282/C, 11/1996; PackageReference: PAG64; PackageDescription: 64-Pin Plastic Flat Pack, Body 10 x 10 mm, Pitch 0.50 mm; Supplier 1: Digi-Key; Supplier Part Number 1: 296-27840-2-ND; Supplier 2: Digi-Key; Supplier Part Number 2: 296-27840-1-ND; Supplier 3: Digi-Key; Supplier Part Number 3: 296-27840-6-ND; Supplier 4: Farnell; Supplier Part Number 4: 1863109; Supplier 5: Newark; Supplier Part Number 5: 39T5717; Supplier 6: Newark; Supplier Part Number 6: 91R2089; Supplier 7: Mouser; Supplier Part Number 7: 595-TAS5508CPAGR; Class-D: TRUE; Digital Input: TRUE; Eco-Plan: Green (RoHS & no Sb/Br); Mute: Yes; Output: PWM; PWM Headphone Output: TRUE; SubFamily: PWM Processor; Volume Control: TRUE; Mounting Technology: Surface Mount; Code_JEDEC: MS-026; ComponentLink1Description: Manufacturer URL; ComponentLink1URL: http://www.ti.com/; ComponentLink2Description: Datasheet; ComponentLink2URL: http://www.ti.com/general/docs/lit/getliterature.tsp?genericPartNumber=TAS5508C&fileType=pdf; ComponentLink3Description: Package Specification; ComponentLink3URL: http://www.ti.com/lit/ml/mtqf006a/mtqf006a.pdf
footprint TI-PAG64_N (QFP, 64-Leads, Body 10x10mm, Pitch 0.5mm, IPC Medium Density)
footprint TI-PAG64_L (QFP, 64-Leads, Body 10x10mm, Pitch 0.5mm, IPC High Density)
footprint TI-PAG64_M (QFP, 64-Leads, Body 10x10mm, Pitch 0.5mm, IPC Low Density)
part A pins: 2 PLL_FLT_RET (in) "PLL external filter return", 3 PLL_FLTM "PLL negative input. Connected to PLL_FLT_RTN via an RC network", 4 PLL_FLTP "PLL positive input. Connected to PLL_FLT_RTN via an RC network", 10 VBGAP (out) "Band-gap voltage reference. A pinout of the internally regulated 1.2-V reference.Typically has a 1-nF low-ESR capacitor between VBGAP and AVSS_PLL. This terminal must not be used to power external devices.", 11 ~{RESET} (in) "System reset input, active-low. A system reset is generated by applying a logic low to this terminal. R\E\S\E\T\ is an asynchronous control signal that restores the TAS5508C to its default conditions, sets the valid output (See Datasheet)", 12 ~{HP_SEL} (in) "Headphone in/out selector. When a logic low is applied, the headphone is selected (speakers are off). When a logic high is applied, speakers are selected(headphone is off).", 13 ~{PDN} (in) "Power down, active-low. P\D\N\ powers down all logic and stops all clocks whenever a logic low is applied. The internal parameters are preserved through a power-down cycle, as long as R\E\S\E\T\ is not active. The duration (See Datasheet)", 14 ~{MUTE} (in) "Soft mute of outputs, active-low (muted signal = a logic low, normal operation =a logic high). The mute control provides a noiseless volume ramp to silence.Releasing mute provides a noiseless ramp to previous volume.", 18 OSC_CAP "Oscillator capacitor", 19 XTL_OUT "XTL_OUT and XTL_IN are the only LVCMOS terminals on the device. They provide a reference clock for the TAS5508C via use of an external fundamental-mode crystal. XTL_OUT is the 1.8-V output drive to the crystal. A 13.5-MHz (See Datasheet)", 20 XTL_IN "XTL_OUT and XTL_IN are the only LVCMOS terminals on the device. They provide a reference clock for the TAS5508C via use of an external fundamental-mode crystal. XTL_IN  is the 1.8-V output drive to the crystal. A 13.5-MHz (See Datasheet)", 21 RESERVED (power) "Connect to digital ground", 22 RESERVED (power) "Connect to digital ground", 23 RESERVED (power) "Connect to digital ground", 24 SDA (io) "I2C serial-control data-interface input/output", 25 SCL (io) "I2C serial-control clock input/output", 26 LRCLK (in) "Serial-audio data left/right clock (sampling-rate clock)", 27 SCLK (in) "Serial-audio data clock (shift clock) input", 28 SDIN4 (in) "Serial-audio data input 4 is one of the serial-data input ports. SDIN4 supports four discrete (stereo) data formats and is capable of inputting data at 64 Fs.", 29 SDIN3 (in) "Serial-audio data input 3 is one of the serial-data input ports. SDIN4 supports four discrete (stereo) data formats and is capable of inputting data at 64 Fs.", 30 SDIN2 (in) "Serial-audio data input 2 is one of the serial-data input ports. SDIN2 supports four discrete (stereo) data formats and is capable of inputting data at 64 Fs.", 31 SDIN1 (in) "Serial-audio data input 1 is one of the serial-data input ports. SDIN2 supports four discrete (stereo) data formats and is capable of inputting data at 64 Fs.", 32 PSVC (hiz) "Power-supply volume control PWM output", 37 ~{BKND_ERR} (in) "Active-low. A back-end error sequence is generated by applying logic low to this terminal. The B\K\N\D\_\E\R\R\ results in no change to any system parameters, with all H-bridge drive signals going to a hard-mute (M) state.", 39 VALID (out) "Output indicating validity of PWM outputs, active-high", 40 PWM_M_1 (out) "PWM 1 output (differential -)", 41 PWM_P_1 (out) "PWM 1 output (differential +)", 42 PWM_M_2 (out) "PWM 2 output (differential -)", 43 PWM_P_2 (out) "PWM 2 output (differential +)", 44 PWM_M_3 (out) "PWM 3 output (differential -)", 45 PWM_P_3 (out) "PWM 3 output (differential +)", 46 PWM_M_4 (out) "PWM 4 output (differential -)", 47 PWM_P_4 (out) "PWM 4 output (differential +)", 49 PWM_M_7 (out) "PWM 7 (lineout L) output (differential -)", 50 PWM_P_7 (out) "PWM 7 (lineout L) output (differential +)", 51 PWM_M_8 (out) "PWM 8 (lineout R) output (differential -)", 52 PWM_P_8 (out) "PWM 8 (lineout R) output (differential +)", 55 PWM_M_5 (out) "PWM 5 output (differential -)", 56 PWM_P_5 (out) "PWM 5 output (differential +)", 57 PWM_M_6 (out) "PWM 6 output (differential -)", 58 PWM_P_6 (out) "PWM 6 output (differential +)", 59 PWM_HPML (out) "PWM left-channel headphone (differential -)", 60 PWM_HPPL (out) "PWM left-channel headphone (differential +)", 61 PWM_HPMR (out) "PWM right-channel headphone (differential -)", 62 PWM_HPPR (out) "PWM right-channel headphone (differential +)", 63 MCLK (in) "MCLK is a 3.3-V master clock input. The input frequency of this clock can range from 4 MHz to 50 MHz.", 64 RESERVED (power) "Connect to digital ground"
part B pins: 1 VRA_PLL (power) "Voltage reference for 1.8-V PLL analog supply. A pinout of the internally regulated 1.8-V power used by PLL logic. A 0.1-uF low-ESR capacitor should be connected between this terminal and AVSS_PLL. This terminal must not be (See Datasheet)", 5 AVSS (power) "Analog ground", 6 AVSS (power) "Analog ground", 7 VRD_PLL (power) "Voltage reference for 1.8-V PLL digital supply. A pinout of the internally regulated 1.8-V power used by PLL logic. A 0.1-uF low-ESR capacitor should be connected between this terminal and AVSS_PLL. This terminal must not be (See Datasheet)", 8 AVSS_PLL (power) "Analog ground for PLL. This terminal should reference the same ground as terminal DVSS, but to achieve low PLL jitter, ground noise at this terminal must be minimized. The availability of the AVSS terminal allows a designer (See Datasheet)", 9 AVDD_PLL (power) "3.3-V analog power supply for PLL. This terminal can be connected to the same power source used to drive power terminal DVDD, but to achieve low PLL jitter, this terminal should be bypassed to AVSS_PLL with a 0.1-uF low-ESR (See Datasheet)", 15 DVDD (power) "3.3-V digital power supply", 16 DVSS (power) "Digital ground", 17 VR_DPLL (power) "Voltage reference for 1.8-V digital PLL supply. A pinout of the internally regulated 1.8-V power used by digital PLL logic. A 0.1-uF low-ESR capacitor should be connected between this terminal and DVSS_CORE. This terminal (See Datasheet)", 33 VR_DIG (power) "Voltage reference for 1.8-V digital core supply. A pinout of the internally regulated 1.8-V power used by digital core logic. A 4.7-uF low-ESR capacitor should be connected between this terminal and DVSS. This terminal must (See Datasheet)", 34 DVSS (power) "Digital ground", 35 DVSS (power) "Digital ground", 36 DVDD (power) "3.3-V digital power supply", 38 DVSS (power) "Digital ground", 48 VR_PWM (power) "Voltage reference for 1.8-V digital PWM core supply. A pinout of the internally regulated 1.8-V power used by digital PWM core logic. A 0.1-uF low-ESR capacitor should be connected between this terminal and DVSS_PWM. This (See Datasheet)", 53 DVSS_PWM (power) "Digital ground for PWM", 54 DVDD_PWM (power) "3.3-V digital power supply for PWM"